# EAGLE library part MICROSD (library awesome)
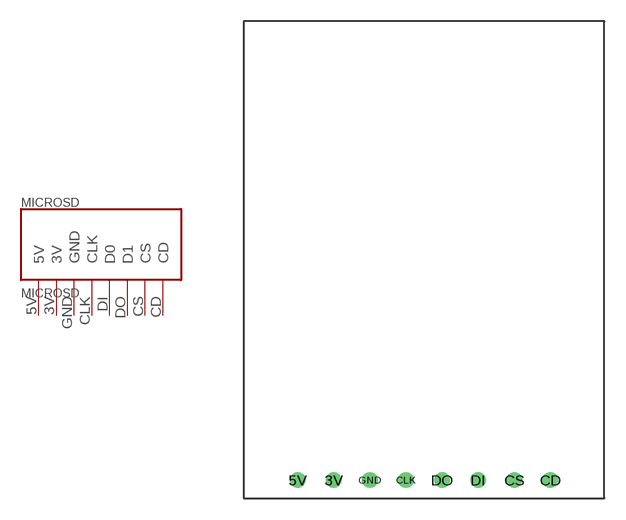
[diagram p4: symbol with the pads of MICROSD; footprint MICROSD]

Designator prefix MICROSD

## MICROSD  [MICROSD]
3V  3V
5V  5V
CD  CD
CLK  CLK
CS  CS
DI  D0
DO  D1
GND  GND

## Footprint MICROSD (pad centres in mm)
drill 0.6: 3V 6.35,1.27; 5V 3.81,1.27; CD 21.59,1.27; CLK 11.43,1.27; CS 19.05,1.27; DI 16.51,1.27; DO 13.97,1.27; GND 8.89,1.27